# Altium footprint library IC_Microchip_93LC56B-I-SN_eec_IPC_C.PcbLib: 1 footprints
Each footprint in its own frame and in the unit in brackets; x right, y up, seen from the top. Pads: shape width x height; smd on the part's side, far side on the other; paste and mask are expansions set on the pad; w line width, h text height; cw(c..) or ccw(c..) is an arc to the next point about the centre after c.
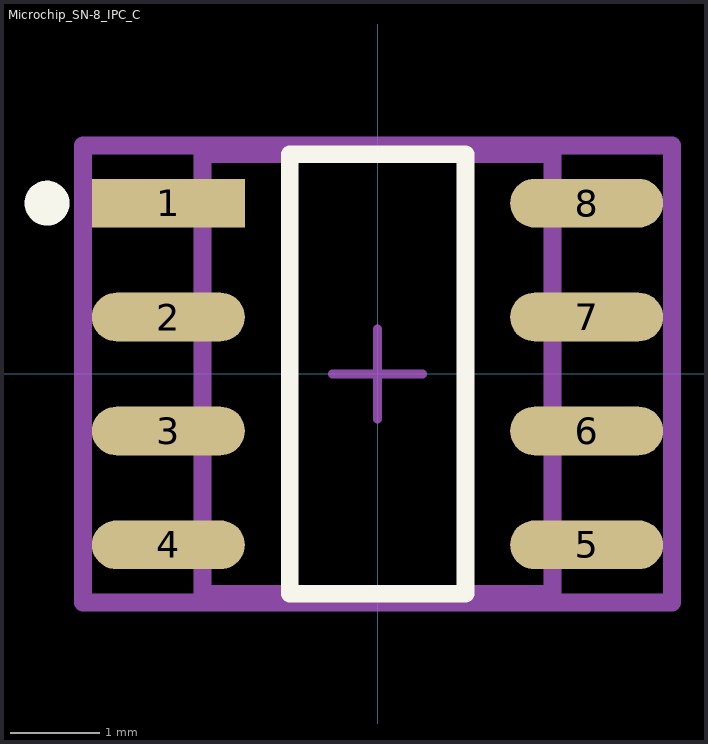
[diagram p0: the footprint, top view; thin cyan lines are the x and y axes]

## Microchip_SN-8_IPC_C [mil]
pads (8):
  rect 67.18x21.34 smd paste+0 mask+0: 1(-91.82,75)
  rrect100% 67.18x21.34 smd paste+0 mask+0: 2(-91.82,25) 3(-91.82,-25) 4(-91.82,-75) 5(91.82,-75) 6(91.82,-25) 7(91.82,25) 8(91.82,75)
Top Overlay:
  circle w9.84: c-145.09,75 r4.92
  lines w7.87: -38.54,-96.46 38.54,-96.46 38.54,96.46 -38.54,96.46 -38.54,-96.46
Mechanical 10:
  lines w7.87: -129.34,-100.39 129.34,-100.39 129.34,100.39 -129.34,100.39 -129.34,-100.39
  text ".Designator" at 0,7.41 h39.37
Mechanical 12:
  lines w7.87: -76.77,-96.46 76.77,-96.46 76.77,96.46 -76.77,96.46 -76.77,-96.46
Mechanical 15:
  lines w3.94: -19.68,0 19.68,0 ; 0,-19.68 0,19.68
  lines w7.87: -129.34,-100.39 129.34,-100.39 129.34,100.39 -129.34,100.39 -129.34,-100.39
3D body "IC_Microchip_93LC56B-I-SN_eec.STEP": height 10, standoff 0, extent -129.34,-100.39 129.34,100.39